# Altium integrated library ES1B.IntLib: 1 symbol
Pins are listed as number, name and electrical type; pins without a type are passive.

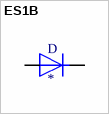
[diagram p0: symbol ES1B]

## ES1B
designator D
Diode Standard 100V 1A Surface Mount SMA _DO-214AC_; MP: ES1B; MF: ON Semiconductor; Package: DO-214 Fairchild Semiconductor; SnapEDA_Link: https://www.snapeda.com/parts/ES1B/ON%20Semiconductor/view-part/560187/?ref=snap; Value: *; Availability: Unavailable; Price: None
footprint SMA
pins: A, K